# EAGLE library part MAX31855KASA+ (library G1Tech-Integrated-Circuits)
https://datasheets.maximintegrated.com/en/ds/MAX31855.pdf
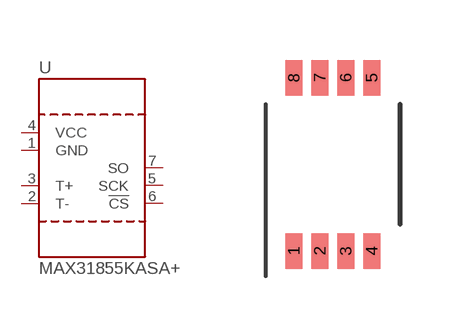
[diagram p0: symbol with the pads of SO08; footprint SO08]

Designator prefix U

## MAX31855KASA+  [SO08]
1  GND  pwr
2  T-
3  T+
4  VCC  pwr
5  SCK
6  !CS
7  SO

## Footprint SO08 (pad centres in mm)
Reflow soldering footprint for SO8 https://www.nxp.com/docs/en/package-information/SOT96-1.pdf
smd 0.42 x 0.89: 1 -0.975,-2.17; 2 -0.325,-2.17; 3 0.325,-2.17; 4 0.975,-2.17; 5 0.975,2.17; 6 0.325,2.17; 7 -0.325,2.17; 8 -0.975,2.17